# Altium integrated library MAX14626ETT_.IntLib: 1 symbol
Pins are listed as number, name and electrical type; pins without a type are passive.

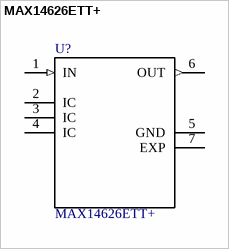
[diagram p0: symbol MAX14626ETT+]

## MAX14626ETT+
designator U?
Circuit Protection Misc Current Loop Protector; MF: Maxim Integrated; Price: None; Package: TDFN-6 Maxim; SnapEDA_Link: https://www.snapeda.com/parts/MAX14626ETT%2B/Maxim%20Integrated/view-part/?ref=snap; Availability: Unavailable; MP: MAX14626ETT+; Value: *
footprint *SON95P300X300X80-7N
pins: 1 IN (in), 2 IC, 3 IC, 4 IC, 5 GND (power), 6 OUT (out), 7 EXP (power)